# EAGLE library part TM4C123GH6PZ (library tiva-temp)
tm4c123gh6pz_ra0_lqfp_v0p1 edit this description Auto generated by make-symbol-device-package-bsdl.ulp Rev. 44 Source: tm4c123gh6pz_ra0_lqfp_v0p1.bsdl
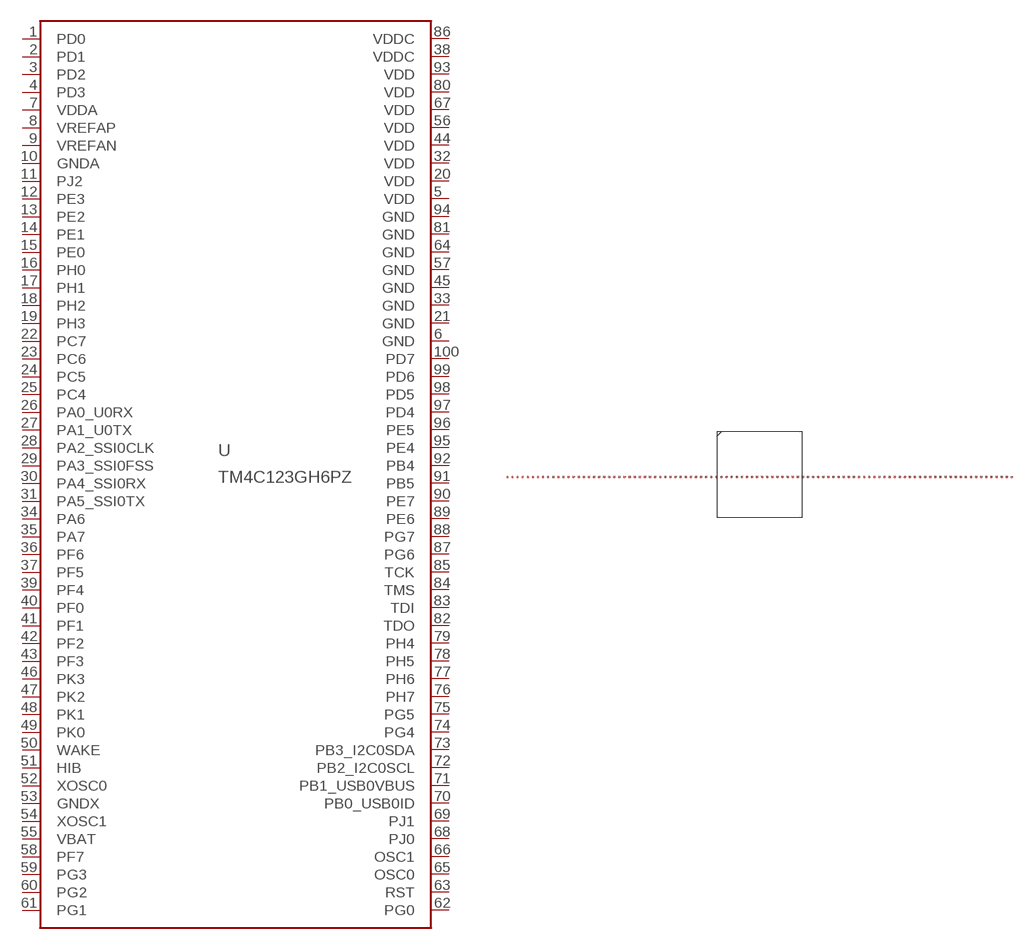
[diagram p0: symbol with the pads of LQFP_100; footprint LQFP_100]

Designator prefix U

## TM4C123GH6PZ  [LQFP_100]
1  PD0
2  PD1
3  PD2
4  PD3
5  VDD  pwr
6  GND  pwr
7  VDDA  pwr
8  VREFAP  pas
9  VREFAN  pas
10  GNDA  pwr
11  PJ2
12  PE3
13  PE2
14  PE1
15  PE0
16  PH0
17  PH1
18  PH2
19  PH3
20  VDD  pwr
21  GND  pwr
22  PC7
23  PC6
24  PC5
25  PC4
26  PA0_U0RX
27  PA1_U0TX
28  PA2_SSI0CLK
29  PA3_SSI0FSS
30  PA4_SSI0RX
31  PA5_SSI0TX
32  VDD  pwr
33  GND  pwr
34  PA6
35  PA7
36  PF6
37  PF5
38  VDDC  pwr
39  PF4
40  PF0
41  PF1
42  PF2
43  PF3
44  VDD  pwr
45  GND  pwr
46  PK3
47  PK2
48  PK1
49  PK0
50  WAKE  pas
51  HIB  pas
52  XOSC0  pas
53  GNDX  pwr
54  XOSC1  pas
55  VBAT  pas
56  VDD  pwr
57  GND  pwr
58  PF7
59  PG3
60  PG2
61  PG1
62  PG0
63  RST  pas
64  GND  pwr
65  OSC0  pas
66  OSC1  pas
67  VDD  pwr
68  PJ0
69  PJ1
70  PB0_USB0ID
71  PB1_USB0VBUS
72  PB2_I2C0SCL
73  PB3_I2C0SDA
74  PG4
75  PG5
76  PH7
77  PH6
78  PH5
79  PH4
80  VDD  pwr
81  GND  pwr
82  TDO  out
83  TDI  in
84  TMS  in
85  TCK  in
86  VDDC  pwr
87  PG6
88  PG7
89  PE6
90  PE7
91  PB5
92  PB4
93  VDD  pwr
94  GND  pwr
95  PE4
96  PE5
97  PD4
98  PD5
99  PD6
100  PD7

## Footprint LQFP_100 (pad centres in mm)
tm4c123gh6pz_ra0_lqfp_v0p1 edit this description Auto generated by make-symbol-device-package-bsdl.ulp Rev. 44 Source: tm4c123gh6pz_ra0_lqfp_v0p1.bsdl
smd 0.5 x 0.5: 1 -49.5,-0.5; 2 -48.5,-0.5; 3 -47.5,-0.5; 4 -46.5,-0.5; 5 -45.5,-0.5; 6 -44.5,-0.5; 7 -43.5,-0.5; 8 -42.5,-0.5; 9 -41.5,-0.5; 10 -40.5,-0.5; 11 -39.5,-0.5; 12 -38.5,-0.5; 13 -37.5,-0.5; 14 -36.5,-0.5; 15 -35.5,-0.5; 16 -34.5,-0.5; 17 -33.5,-0.5; 18 -32.5,-0.5; 19 -31.5,-0.5; 20 -30.5,-0.5; 21 -29.5,-0.5; 22 -28.5,-0.5; 23 -27.5,-0.5; 24 -26.5,-0.5; 25 -25.5,-0.5; 26 -24.5,-0.5; 27 -23.5,-0.5; 28 -22.5,-0.5; 29 -21.5,-0.5; 30 -20.5,-0.5; 31 -19.5,-0.5; 32 -18.5,-0.5; 33 -17.5,-0.5; 34 -16.5,-0.5; 35 -15.5,-0.5; 36 -14.5,-0.5; 37 -13.5,-0.5; 38 -12.5,-0.5; 39 -11.5,-0.5; 40 -10.5,-0.5; 41 -9.5,-0.5; 42 -8.5,-0.5; 43 -7.5,-0.5; 44 -6.5,-0.5; 45 -5.5,-0.5; 46 -4.5,-0.5; 47 -3.5,-0.5; 48 -2.5,-0.5; 49 -1.5,-0.5; 50 -0.5,-0.5; 51 0.5,-0.5; 52 1.5,-0.5; 53 2.5,-0.5; 54 3.5,-0.5; 55 4.5,-0.5; 56 5.5,-0.5; 57 6.5,-0.5; 58 7.5,-0.5; 59 8.5,-0.5; 60 9.5,-0.5; 61 10.5,-0.5; 62 11.5,-0.5; 63 12.5,-0.5; 64 13.5,-0.5; 65 14.5,-0.5; 66 15.5,-0.5; 67 16.5,-0.5; 68 17.5,-0.5; 69 18.5,-0.5; 70 19.5,-0.5; 71 20.5,-0.5; 72 21.5,-0.5; 73 22.5,-0.5; 74 23.5,-0.5; 75 24.5,-0.5; 76 25.5,-0.5; 77 26.5,-0.5; 78 27.5,-0.5; 79 28.5,-0.5; 80 29.5,-0.5; 81 30.5,-0.5; 82 31.5,-0.5; 83 32.5,-0.5; 84 33.5,-0.5; 85 34.5,-0.5; 86 35.5,-0.5; 87 36.5,-0.5; 88 37.5,-0.5; 89 38.5,-0.5; 90 39.5,-0.5; 91 40.5,-0.5; 92 41.5,-0.5; 93 42.5,-0.5; 94 43.5,-0.5; 95 44.5,-0.5; 96 45.5,-0.5; 97 46.5,-0.5; 98 47.5,-0.5; 99 48.5,-0.5; 100 49.5,-0.5